# EAGLE library part SN65240 (library sn65220_40)
USB Port Transient Suppressor
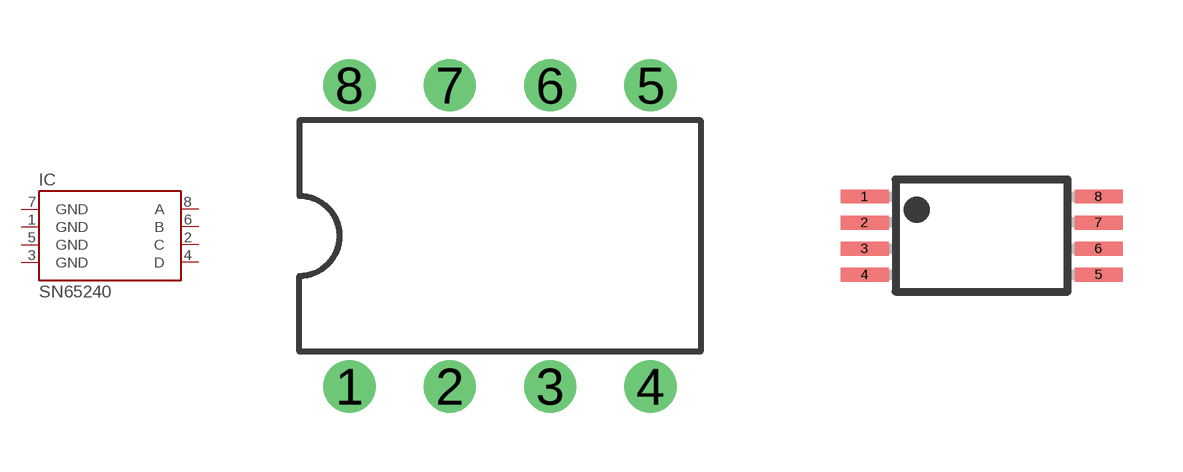
[diagram p0: symbol with the pads of DIL08; footprints DIL08, TSSOP8]

Designator prefix IC

## SN65240P  [DIL08]
1  GND  pwr
2  C  pas
3  GND  pwr
4  D  pas
5  GND  pwr
6  B  pas
7  GND  pwr
8  A  pas

## SN65240PW  [TSSOP8]
Pads as for DIL08

## Footprint DIL08 (pad centres in mm)
Dual In Line Package
drill 0.813 pad 1.27: 1 -3.81,-3.81; 2 -1.27,-3.81; 3 1.27,-3.81; 4 3.81,-3.81; 5 3.81,3.81; 6 1.27,3.81; 7 -1.27,3.81; 8 -3.81,3.81

## Footprint TSSOP8 (pad centres in mm)
Plastic Small Outline
smd 1.2 x 0.35: 1 -2.925,0.975; 2 -2.925,0.325; 3 -2.925,-0.325; 4 -2.925,-0.975; 5 2.925,-0.975; 6 2.925,-0.325; 7 2.925,0.325; 8 2.925,0.975